# Altium footprint library THS4531IDGKR.PcbLib: 3 footprints
Each footprint in its own frame and in the unit in brackets; x right, y up, seen from the top. Pads: shape width x height; smd on the part's side, far side on the other; paste and mask are expansions set on the pad; w line width, h text height; cw(c..) or ccw(c..) is an arc to the next point about the centre after c.
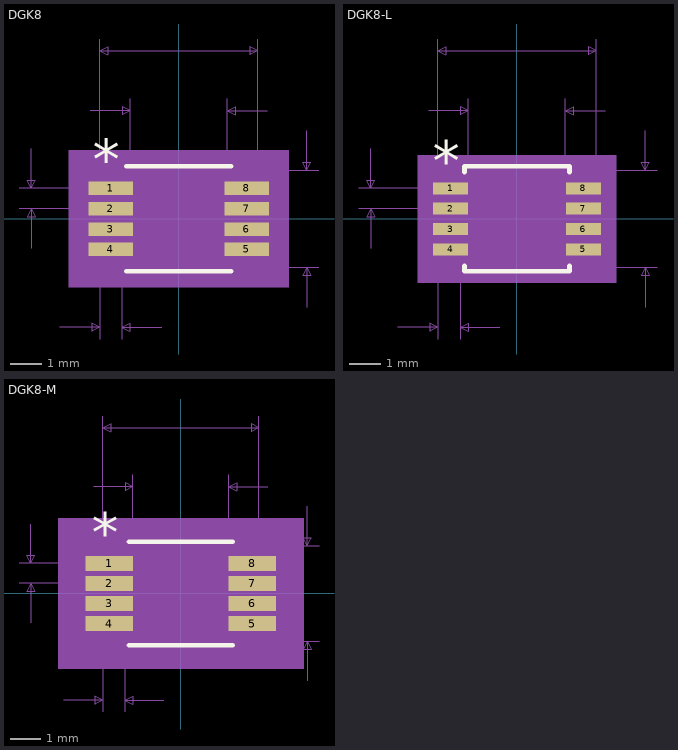
[diagram p0: the footprints below, top view; thin cyan lines are the x and y axes]

## DGK8 [mil]
pads (8):
  rect 56x17 smd: 1(-85.5,38.39) 2(-85.5,12.8) 3(-85.5,-12.8) 4(-85.5,-38.39) 5(85.5,-38.39) 6(85.5,-12.8) 7(85.5,12.8) 8(85.5,38.39)
Top Overlay:
  lines w6: -66,-66 66,-66 ; -66,66 66,66
  text "*" at -108,50.39 h50
Mechanical 5:
  region: 138.5,-86 -138.5,-86 -138.5,86 138.5,86
Mechanical 7:
  lines w1: -200.5,12.8 -85.5,12.8 ; -200.5,38.39 -85.5,38.39 ; -185.5,-37.2 -185.5,12.8 ; -185.5,88.39 -185.5,38.39 ; -149.5,-136 -99.5,-136 ; -111,136 -61,136 ; -99.5,-151 -99.5,0 -99.5,226 ; -71.5,-151 -71.5,0 ; -61,0 -61,151 ; -21.5,-136 -71.5,-136 ; 0,-61 176,-61 ; 0,61 176,61 ; 61,0 61,151 ; 99.5,0 99.5,226 ; 111,136 61,136 ; 161,-111 161,-61 ; 161,111 161,61 ; -185.5,12.8 -190.5,2.8 -180.5,2.8 -185.5,12.8 ; -185.5,38.39 -190.5,48.39 -180.5,48.39 -185.5,38.39 ; -99.5,-136 -109.5,-131 -109.5,-141 -99.5,-136 ; -99.5,211 99.5,211 ; -99.5,211 -89.5,216 -89.5,206 -99.5,211 ; -71.5,-136 -61.5,-131 -61.5,-141 -71.5,-136 ; -61,136 -71,141 -71,131 -61,136 ; 61,136 71,141 71,131 61,136 ; 99.5,211 89.5,216 89.5,206 99.5,211 ; 161,-61 156,-71 166,-71 161,-61 ; 161,61 156,71 166,71 161,61
  text "Default Padstyle: RX56Y17D0T" at -350,-261 h50
  text "Pin One Padstyle: RX56Y17D0T" at -350,-321 h50
  text "Alt 1 Padstyle: OX60Y90D30P" at -337.5,-501 h50
  text "Alt 2 Padstyle: OX90Y60D30P" at -337.5,-561 h50
  text "0.122in/3.099mm" at -93.75,156 h25
  text "0.199in/5.055mm" at -93.75,231 h25
  text "0.122in/3.099mm" at 181,-12.5 h25
  text "0.026in/0.65mm" at -380.5,13.09 h25
  text "0.028in/0.711mm" at -179.25,-181 h25
Mechanical 13:
  lines w0: -12,61 ccw(c0,61) 12,61
  lines w1: -99.5,-45.89 -99.5,-30.89 -61,-30.89 -61,-45.89 -99.5,-45.89 ; -99.5,-20.3 -99.5,-5.3 -61,-5.3 -61,-20.3 -99.5,-20.3 ; -99.5,5.3 -99.5,20.3 -61,20.3 -61,5.3 -99.5,5.3 ; -99.5,30.89 -99.5,45.89 -61,45.89 -61,30.89 -99.5,30.89 ; -61,-61 61,-61 61,61 -61,61 -61,-61 ; 61,-45.89 61,-30.89 99.5,-30.89 99.5,-45.89 61,-45.89 ; 61,-20.3 61,-5.3 99.5,-5.3 99.5,-20.3 61,-20.3 ; 61,5.3 61,20.3 99.5,20.3 99.5,5.3 61,5.3 ; 61,30.89 61,45.89 99.5,45.89 99.5,30.89 61,30.89
  text "*" at -58.5,8 h50
Mechanical 15:
  region: -71,-56.89 -123.5,-56.89 -123.5,56.89 -71,56.89 -71,71 71,71 71,56.89 123.5,56.89 123.5,-56.89 71,-56.89 71,-71 -71,-71
  lines w6: -123.5,-56.89 -123.5,56.89 -71,56.89 -71,71 71,71 71,56.89 123.5,56.89 123.5,-56.89 71,-56.89 71,-71 -71,-71 -71,-56.89 -123.5,-56.89
3D body: height 10, standoff 0, extent 0,0 10,10

## DGK8-L [mil]
pads (8):
  rect 44x15 smd paste+0 mask+0: 1(-83.5,38.39) 2(-83.5,12.8) 3(-83.5,-12.8) 4(-83.5,-38.39) 5(83.5,-38.39) 6(83.5,-12.8) 7(83.5,12.8) 8(83.5,38.39)
Top Overlay:
  lines w6: -66,-58.99 -66,-66 66,-66 66,-58.99 ; -66,58.99 -66,66 66,66 66,58.99
  text "*" at -106,48.39 h50
Mechanical 5:
  region: 124.5,-80 -124.5,-80 -124.5,80 124.5,80
Mechanical 7:
  lines w1: -198.5,12.8 -83.5,12.8 ; -198.5,38.39 -83.5,38.39 ; -183.5,-37.2 -183.5,12.8 ; -183.5,88.39 -183.5,38.39 ; -149.5,-136 -99.5,-136 ; -111,136 -61,136 ; -99.5,-151 -99.5,0 -99.5,226 ; -71.5,-151 -71.5,0 ; -61,0 -61,151 ; -21.5,-136 -71.5,-136 ; 0,-61 176,-61 ; 0,61 176,61 ; 61,0 61,151 ; 99.5,0 99.5,226 ; 111,136 61,136 ; 161,-111 161,-61 ; 161,111 161,61 ; -183.5,12.8 -188.5,2.8 -178.5,2.8 -183.5,12.8 ; -183.5,38.39 -188.5,48.39 -178.5,48.39 -183.5,38.39 ; -99.5,-136 -109.5,-131 -109.5,-141 -99.5,-136 ; -99.5,211 99.5,211 ; -99.5,211 -89.5,216 -89.5,206 -99.5,211 ; -71.5,-136 -61.5,-131 -61.5,-141 -71.5,-136 ; -61,136 -71,141 -71,131 -61,136 ; 61,136 71,141 71,131 61,136 ; 99.5,211 89.5,216 89.5,206 99.5,211 ; 161,-61 156,-71 166,-71 161,-61 ; 161,61 156,71 166,71 161,61
  text "Default Padstyle: RX44Y15D0T" at -350,-261 h50
  text "Pin One Padstyle: RX44Y15D0T" at -350,-321 h50
  text "Alt 1 Padstyle: OX60Y90D30P" at -337.5,-501 h50
  text "Alt 2 Padstyle: OX90Y60D30P" at -337.5,-561 h50
  text "0.122in/3.099mm" at -93.75,156 h25
  text "0.199in/5.055mm" at -93.75,231 h25
  text "0.122in/3.099mm" at 181,-12.5 h25
  text "0.026in/0.65mm" at -378.5,13.09 h25
  text "0.028in/0.711mm" at -179.25,-181 h25
Mechanical 13:
  lines w0: -12,61 ccw(c0,61) 12,61
  lines w1: -99.5,-45.89 -99.5,-30.89 -61,-30.89 -61,-45.89 -99.5,-45.89 ; -99.5,-20.3 -99.5,-5.3 -61,-5.3 -61,-20.3 -99.5,-20.3 ; -99.5,5.3 -99.5,20.3 -61,20.3 -61,5.3 -99.5,5.3 ; -99.5,30.89 -99.5,45.89 -61,45.89 -61,30.89 -99.5,30.89 ; -61,-61 61,-61 61,61 -61,61 -61,-61 ; 61,-45.89 61,-30.89 99.5,-30.89 99.5,-45.89 61,-45.89 ; 61,-20.3 61,-5.3 99.5,-5.3 99.5,-20.3 61,-20.3 ; 61,5.3 61,20.3 99.5,20.3 99.5,5.3 61,5.3 ; 61,30.89 61,45.89 99.5,45.89 99.5,30.89 61,30.89
  text "*" at -58.5,8 h50
Mechanical 15:
  region: -65,-49.89 -109.5,-49.89 -109.5,49.89 -65,49.89 -65,65 65,65 65,49.89 109.5,49.89 109.5,-49.89 65,-49.89 65,-65 -65,-65
  lines w6: -109.5,-49.89 -109.5,49.89 -65,49.89 -65,65 65,65 65,49.89 109.5,49.89 109.5,-49.89 65,-49.89 65,-65 -65,-65 -65,-49.89 -109.5,-49.89
3D body: height 10, standoff 0, extent 0,0 10,10

## DGK8-M [mil]
pads (8):
  rect 60.5x19 smd paste+0 mask+0: 1(-91.25,38.39) 2(-91.25,12.8) 3(-91.25,-12.8) 4(-91.25,-38.39) 5(91.25,-38.39) 6(91.25,-12.8) 7(91.25,12.8) 8(91.25,38.39)
Top Overlay:
  lines w6: -66,-66 66,-66 ; -66,66 66,66
  text "*" at -113.75,52.39 h50
Mechanical 5:
  region: 156.5,-96 -156.5,-96 -156.5,96 156.5,96
Mechanical 7:
  lines w1: -206.25,12.8 -91.25,12.8 ; -206.25,38.39 -91.25,38.39 ; -191.25,-37.2 -191.25,12.8 ; -191.25,88.39 -191.25,38.39 ; -149.5,-136 -99.5,-136 ; -111,136 -61,136 ; -99.5,-151 -99.5,0 -99.5,226 ; -71.5,-151 -71.5,0 ; -61,0 -61,151 ; -21.5,-136 -71.5,-136 ; 0,-61 176,-61 ; 0,61 176,61 ; 61,0 61,151 ; 99.5,0 99.5,226 ; 111,136 61,136 ; 161,-111 161,-61 ; 161,111 161,61 ; -191.25,12.8 -196.25,2.8 -186.25,2.8 -191.25,12.8 ; -191.25,38.39 -196.25,48.39 -186.25,48.39 -191.25,38.39 ; -99.5,-136 -109.5,-131 -109.5,-141 -99.5,-136 ; -99.5,211 99.5,211 ; -99.5,211 -89.5,216 -89.5,206 -99.5,211 ; -71.5,-136 -61.5,-131 -61.5,-141 -71.5,-136 ; -61,136 -71,141 -71,131 -61,136 ; 61,136 71,141 71,131 61,136 ; 99.5,211 89.5,216 89.5,206 99.5,211 ; 161,-61 156,-71 166,-71 161,-61 ; 161,61 156,71 166,71 161,61
  text "Default Padstyle: RX60p5Y19D0T" at -375,-261 h50
  text "Pin One Padstyle: RX60p5Y19D0T" at -375,-321 h50
  text "Alt 1 Padstyle: OX60Y90D30P" at -337.5,-501 h50
  text "Alt 2 Padstyle: OX90Y60D30P" at -337.5,-561 h50
  text "0.122in/3.099mm" at -93.75,156 h25
  text "0.199in/5.055mm" at -93.75,231 h25
  text "0.122in/3.099mm" at 181,-12.5 h25
  text "0.026in/0.65mm" at -386.25,13.09 h25
  text "0.028in/0.711mm" at -179.25,-181 h25
Mechanical 13:
  lines w0: -12,61 ccw(c0,61) 12,61
  lines w1: -99.5,-45.89 -99.5,-30.89 -61,-30.89 -61,-45.89 -99.5,-45.89 ; -99.5,-20.3 -99.5,-5.3 -61,-5.3 -61,-20.3 -99.5,-20.3 ; -99.5,5.3 -99.5,20.3 -61,20.3 -61,5.3 -99.5,5.3 ; -99.5,30.89 -99.5,45.89 -61,45.89 -61,30.89 -99.5,30.89 ; -61,-61 61,-61 61,61 -61,61 -61,-61 ; 61,-45.89 61,-30.89 99.5,-30.89 99.5,-45.89 61,-45.89 ; 61,-20.3 61,-5.3 99.5,-5.3 99.5,-20.3 61,-20.3 ; 61,5.3 61,20.3 99.5,20.3 99.5,5.3 61,5.3 ; 61,30.89 61,45.89 99.5,45.89 99.5,30.89 61,30.89
  text "*" at -58.5,8 h50
Mechanical 15:
  region: -81,-67.89 -141.5,-67.89 -141.5,67.89 -81,67.89 -81,81 81,81 81,67.89 141.5,67.89 141.5,-67.89 81,-67.89 81,-81 -81,-81
  lines w6: -141.5,-67.89 -141.5,67.89 -81,67.89 -81,81 81,81 81,67.89 141.5,67.89 141.5,-67.89 81,-67.89 81,-81 -81,-81 -81,-67.89 -141.5,-67.89
3D body: height 10, standoff 0, extent 0,0 10,10